# Altium footprint library POWER.PcbLib: 39 footprints (part 1 of 3)
Each footprint in its own frame and in the unit in brackets; x right, y up, seen from the top. Pads: shape width x height; smd on the part's side, far side on the other; paste and mask are expansions set on the pad; w line width, h text height; cw(c..) or ccw(c..) is an arc to the next point about the centre after c.
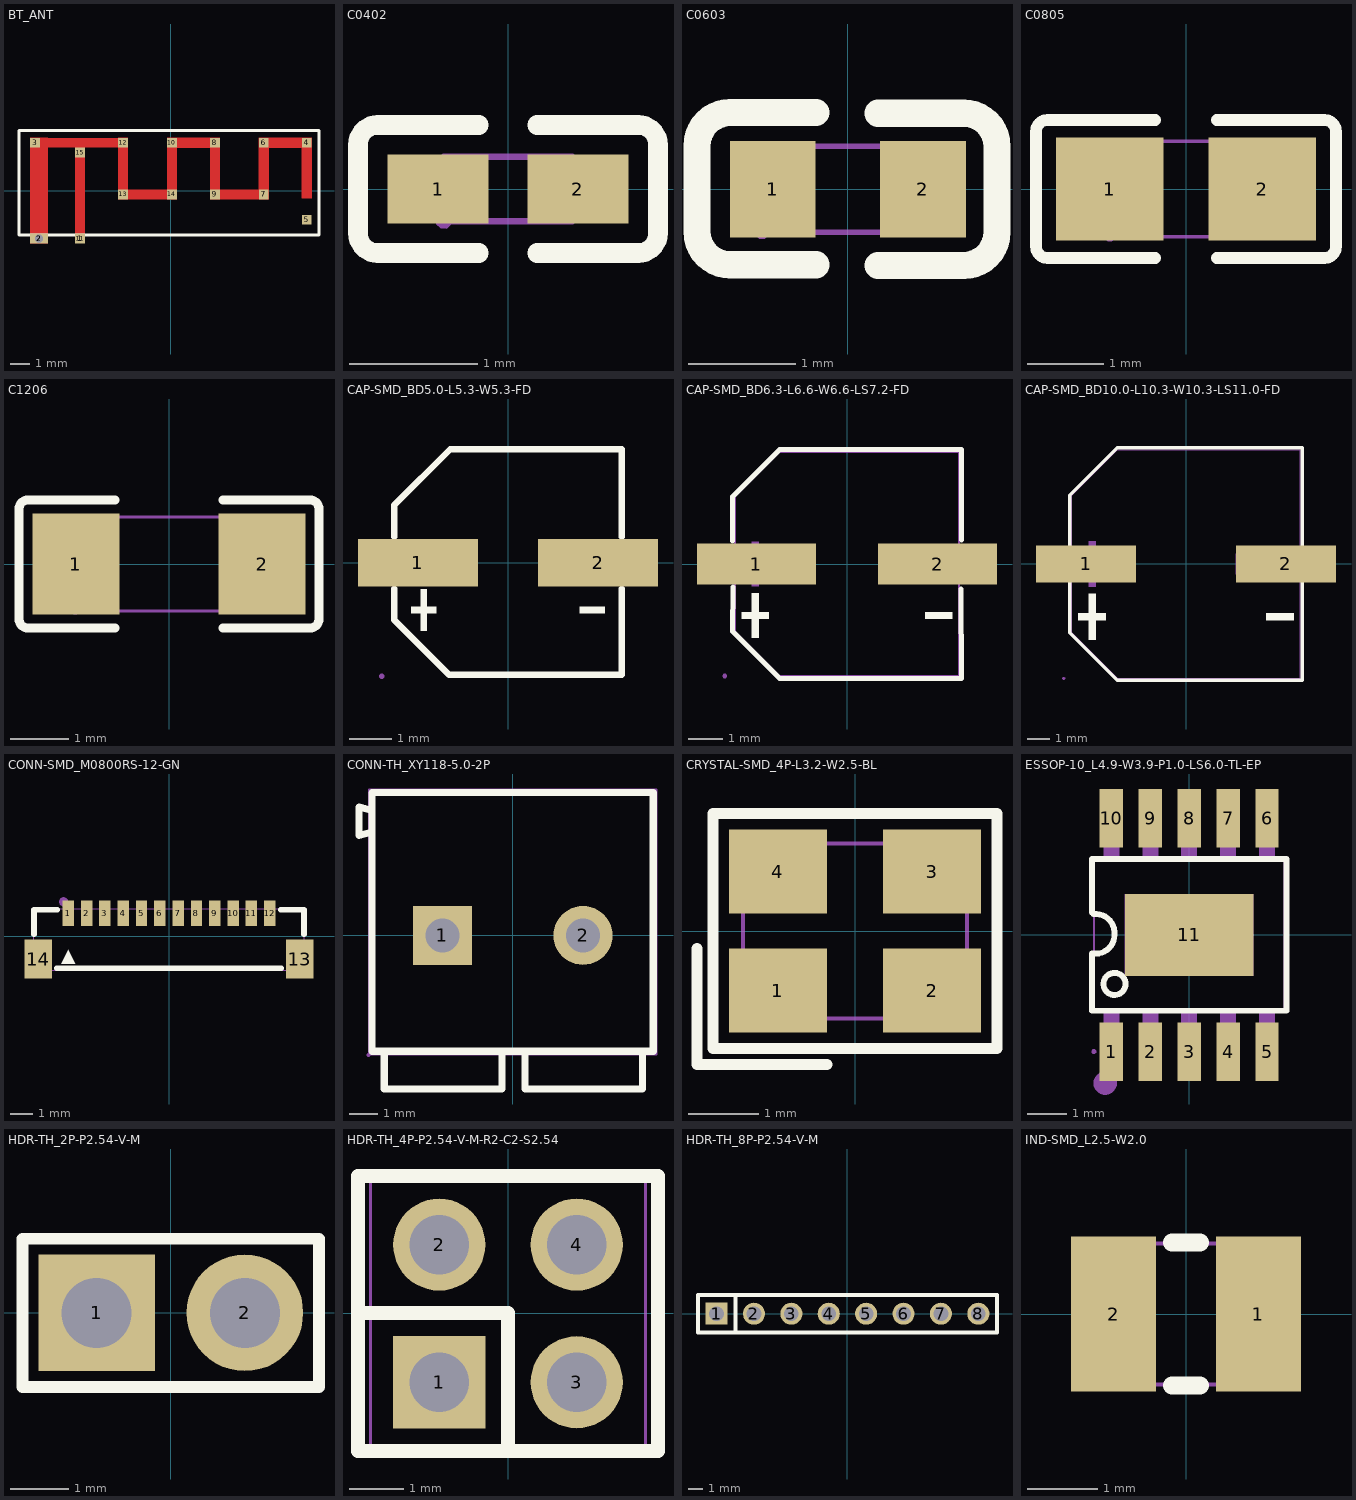
[diagram p0: the footprints below, top view; thin cyan lines are the x and y axes]

## BT_ANT [mm]
pads (17):
  rect 0.5x0.5 smd paste+0 mask+0.102: 1(-4.65,-2.45) 3(-6.95,2.45) 4(6.95,2.45) 5(6.95,-1.49) 6(4.75,2.45) 7(4.75,-0.19) 8(2.25,2.45) 9(2.25,-0.19) 10(0.05,2.45) 11(-4.65,-2.45) 12(-2.45,2.45) 13(-2.45,-0.19) 14(0.05,-0.19) 15(-4.65,1.95)
  rect 0.9x0.5 smd paste+0 mask+0.102: 2(-6.75,-2.45) 2(-6.75,-2.45)
  oval 0.7x0.5 hole 0.4 slot 0.405 at 0 deg paste+0 mask+0.102: 2(-6.75,-2.45)
Top Layer:
  region: 2.5,-0.44 2.5,2.7 2,2.7 2,-0.44
  region: 2.5,2.2 2.5,2.7 -0.201,2.7 -0.201,2.2
  region: 0.3,-0.44 0.3,2.7 -0.201,2.7 -0.201,-0.44
  region: 0.301,-0.441 0.301,0.059 -2.699,0.059 -2.699,-0.441
  region: -6.299,-2.7 -6.299,2.7 -7.198,2.7 -7.198,-2.7
  region: -4.4,-2.358 -4.4,2.45 -4.901,2.45 -4.901,-2.358
  region: -2.201,-0.44 -2.201,2.7 -2.701,2.7 -2.701,-0.44
  region: 5,-0.44 5,2.7 4.5,2.7 4.5,-0.44
  region: 2.299,0.06 2.299,-0.44 5,-0.44 5,0.06
  region: 7.2,2.2 7.2,2.699 4.5,2.699 4.5,2.2
  region: 7.2,-0.39 7.2,2.7 6.7,2.7 6.7,-0.39
  lines w0.5: -6.95,2.45 -2.45,2.45
Top Overlay:
  lines w0.15: -7.775,-2.275 -7.775,3.075 7.575,3.075 7.575,-2.275 -7.775,-2.275
Top Solder:
  lines w0.5: -6.95,2.45 -2.45,2.45 -2.45,-0.19 0.05,-0.19 0.05,2.45 2.25,2.45 2.25,-0.19 4.75,-0.19 4.75,2.45 6.95,2.45 6.95,-1.49 ; -4.65,-2.45 -4.65,2.45
  lines w0.9: -6.75,-2.25 -6.75,2.25

## C0402 [mm]
pads (2):
  rect 0.79x0.54 smd paste-100 mask+0.051: 1(-0.545,0) 2(0.545,0)
Top Overlay:
  lines w0.152: -0.226,-0.499 -1.016,-0.499 cw(c-1.016,-0.346) -1.169,-0.346 -1.169,0.346 cw(c-1.016,0.346) -1.016,0.499 -0.226,0.499 ; 0.226,-0.499 1.016,-0.499 ccw(c1.016,-0.346) 1.169,-0.346 1.169,0.346 ccw(c1.016,0.346) 1.016,0.499 0.226,0.499
Top Paste:
  region: 0.78,0.225 0.78,-0.225 0.73,-0.275 0.25,-0.275 0.18,-0.225 0.18,0.225 0.25,0.275 0.73,0.275
  region: -0.18,0.225 -0.18,-0.225 -0.25,-0.275 -0.73,-0.275 -0.78,-0.225 -0.78,0.225 -0.73,0.275 -0.25,0.275
Mechanical 15:
  region: -0.44,-0.25 -0.441,-0.226 -0.476,-0.192 -0.524,-0.192 -0.559,-0.226 -0.56,-0.25 -0.559,-0.274 -0.524,-0.308 -0.476,-0.308 -0.441,-0.274 -0.44,-0.25
  region: 0.5,-0.25 0.5,0.25 0.25,0.25 0.25,-0.25
  region: -0.5,-0.25 -0.5,0.25 -0.25,0.25 -0.25,-0.25
  lines w0.051: -0.5,-0.25 0.5,-0.25 0.5,0.25 -0.5,0.25 -0.5,-0.25

## C0603 [mm]
pads (2):
  rect 0.8x0.9 smd: 1(-0.7,0) 2(0.7,0)
Top Overlay:
  lines w0.254: -0.296,-0.704 -1.096,-0.704 cw(c-1.096,-0.394) -1.406,-0.394 -1.405,0.406 cw(c-1.096,0.406) -1.096,0.715 -0.296,0.715 ; 0.28,-0.71 1.08,-0.71 ccw(c1.08,-0.4) 1.39,-0.4 1.39,0.4 ccw(c1.08,0.4) 1.08,0.71 0.28,0.71
Mechanical 15:
  region: -0.86,-0.4 -0.86,-0.425 -0.825,-0.46 -0.775,-0.46 -0.74,-0.425 -0.74,-0.4 -0.74,-0.375 -0.775,-0.34 -0.825,-0.34 -0.86,-0.375 -0.86,-0.4
  region: 0.8,-0.4 0.8,0.4 0.5,0.4 0.5,-0.4
  region: -0.8,-0.4 -0.8,0.4 -0.5,0.4 -0.5,-0.4
  lines w0.051: -0.8,-0.4 0.8,-0.4 0.8,0.4 -0.8,0.4 -0.8,-0.4

## C0805 [mm]
pads (2):
  rect 1.41x1.35 smd paste-100 mask+0.051: 1(-1,0) 2(1,0)
Top Overlay:
  lines w0.152: -0.401,-0.904 -1.811,-0.904 cw(c-1.811,-0.751) -1.964,-0.751 -1.964,0.751 cw(c-1.811,0.751) -1.811,0.904 -0.401,0.904 ; 0.401,-0.904 1.811,-0.904 ccw(c1.811,-0.751) 1.964,-0.751 1.964,0.751 ccw(c1.811,0.751) 1.811,0.904 0.401,0.904
Top Paste:
  region: 0.475,-0.62 0.475,-0.2 0.92,-0.2 0.92,0.25 0.48,0.25 0.475,0.66 0.525,0.71 1.675,0.71 1.725,0.66 1.725,-0.62 1.675,-0.67 0.525,-0.67
  region: -1.675,-0.62 -1.675,0.66 -1.625,0.71 -0.475,0.71 -0.425,0.66 -0.42,0.25 -0.87,0.25 -0.87,-0.2 -0.43,-0.2 -0.425,-0.62 -0.475,-0.67 -1.625,-0.67
Mechanical 15:
  region: -1.06,-0.625 -1.06,-0.65 -1.025,-0.685 -0.975,-0.685 -0.94,-0.65 -0.94,-0.625 -0.94,-0.6 -0.975,-0.565 -1.025,-0.565 -1.06,-0.6 -1.06,-0.625
  region: 1,0.625 1,-0.625 0.5,-0.625 0.5,0.625
  region: -1,-0.625 -1,0.625 -0.5,0.625 -0.5,-0.625
  lines w0.051: -1,-0.625 1,-0.625 1,0.625 -1,0.625 -1,-0.625

## C1206 [mm]
pads (2):
  rect 1.485x1.728 smd paste-100 mask+0.051: 1(-1.593,0) 2(1.593,0)
Top Overlay:
  lines w0.152: -0.926,-1.093 -2.411,-1.093 cw(c-2.411,-0.94) -2.564,-0.94 -2.564,0.94 cw(c-2.411,0.94) -2.411,1.093 -0.926,1.093 ; 0.926,-1.093 2.411,-1.093 ccw(c2.411,-0.94) 2.564,-0.94 2.564,0.94 ccw(c2.411,0.94) 2.411,1.093 0.926,1.093
Top Paste:
  region: -0.85,-0.764 -0.85,-0.394 -0.95,-0.294 -1.255,-0.294 -1.355,-0.194 -1.355,0.194 -1.255,0.294 -0.95,0.294 -0.85,0.394 -0.85,0.764 -0.95,0.864 -2.235,0.864 -2.335,0.764 -2.335,-0.764 -2.235,-0.864 -0.95,-0.864
  region: 0.85,-0.764 0.85,-0.394 0.95,-0.294 1.255,-0.294 1.355,-0.194 1.355,0.194 1.255,0.294 0.95,0.294 0.85,0.394 0.85,0.764 0.95,0.864 2.235,0.864 2.335,0.764 2.335,-0.764 2.235,-0.864 0.95,-0.864
Mechanical 15:
  region: 1.6,-0.8 1.6,0.8 1.1,0.8 1.1,-0.8
  region: -1.6,-0.8 -1.6,0.8 -1.1,0.8 -1.1,-0.8
  region: -1.6,-0.74 -1.625,-0.74 -1.66,-0.775 -1.66,-0.825 -1.625,-0.86 -1.6,-0.86 -1.575,-0.86 -1.54,-0.825 -1.54,-0.775 -1.575,-0.74 -1.6,-0.74
  lines w0.051: -1.6,-0.8 1.6,-0.8 1.6,0.8 -1.6,0.8 -1.6,-0.8

## CAP-SMD_BD5.0-L5.3-W5.3-FD [mm]
pads (2):
  rect 2.8x1.1 smd: 1(-2.1,0) 2(2.1,0)
Top Overlay:
  region: -2.04,-0.624 -2.04,-1.584 -1.896,-1.584 -1.896,-0.624
  region: -2.256,-1.032 -2.256,-1.176 -1.68,-1.176 -1.68,-1.032
  region: 2.256,-1.032 2.256,-1.176 1.68,-1.176 1.68,-1.032
  lines w0.152: -2.659,-0.607 -2.659,-1.331 -1.372,-2.619 2.649,-2.619 2.649,-0.607 ; -2.659,0.607 -2.659,1.341 -1.349,2.649 2.659,2.649 2.659,0.607
Mechanical 6:
  region: -2.04,0.48 -2.04,-0.48 -1.896,-0.48 -1.896,0.48
  region: -2.256,0.072 -2.256,-0.072 -1.68,-0.072 -1.68,0.072
  region: 2.256,0.072 2.256,-0.072 1.68,-0.072 1.68,0.072
Mechanical 15:
  region: 2.95,-0.32 0.85,-0.32 0.85,0.33 2.95,0.33
  region: -2.95,0.33 -0.85,0.33 -0.85,-0.32 -2.95,-0.32
  region: -2.95,-2.71 -2.925,-2.71 -2.89,-2.675 -2.89,-2.625 -2.925,-2.59 -2.95,-2.59 -2.975,-2.59 -3.01,-2.625 -3.01,-2.675 -2.975,-2.71 -2.95,-2.71
  lines w0.051: -2.65,-1.35 -2.65,1.35 -1.35,2.65 2.65,2.65 2.65,-2.65 -1.35,-2.65 -2.65,-1.35

## CAP-SMD_BD6.3-L6.6-W6.6-LS7.2-FD [mm]
pads (2):
  rect 3.5x1.2 smd: 1(-2.67,0) 2(2.67,0)
Top Overlay:
  region: 3.102,-1.419 3.102,-1.617 2.31,-1.617 2.31,-1.419
  region: -3.102,-1.419 -3.102,-1.617 -2.31,-1.617 -2.31,-1.419
  region: -2.805,-0.858 -2.805,-2.178 -2.607,-2.178 -2.607,-0.858
  lines w0.152: -3.376,0.686 -3.376,1.98 -1.98,3.376 3.376,3.376 3.369,0.708 ; -3.362,-0.686 -3.376,-1.981 -1.981,-3.376 3.376,-3.376 3.356,-0.739
Mechanical 6:
  region: 3.102,0.099 3.102,-0.099 2.31,-0.099 2.31,0.099
  region: -3.102,0.099 -3.102,-0.099 -2.31,-0.099 -2.31,0.099
  region: -2.805,0.66 -2.805,-0.66 -2.607,-0.66 -2.607,0.66
Mechanical 15:
  region: -3.6,0.35 -0.95,0.35 -0.95,-0.35 -3.6,-0.35
  region: 0.95,0.35 3.6,0.35 3.6,-0.35 0.95,-0.35
  region: -3.6,-3.24 -3.624,-3.241 -3.658,-3.276 -3.658,-3.324 -3.624,-3.359 -3.6,-3.36 -3.576,-3.359 -3.542,-3.324 -3.542,-3.276 -3.576,-3.241 -3.6,-3.24
  lines w0.051: -3.3,-1.98 -3.3,1.98 -1.98,3.3 3.3,3.3 3.3,-3.3 -1.98,-3.3 -3.3,-1.98

## CAP-SMD_BD10.0-L10.3-W10.3-LS11.0-FD [mm]
pads (2):
  rect 4.5x1.65 smd: 1(-4.5,0) 2(4.5,0)
Top Overlay:
  region: 4.841,-2.215 4.841,-2.524 3.605,-2.524 3.605,-2.215
  region: -4.841,-2.215 -4.841,-2.524 -3.605,-2.524 -3.605,-2.215
  region: -4.378,-1.339 -4.378,-3.399 -4.069,-3.399 -4.069,-1.339
  lines w0.152: -5.226,-0.852 -5.226,-3.09 -3.09,-5.226 5.226,-5.226 5.226,-0.852 ; -5.226,0.852 -5.226,3.09 -3.09,5.226 5.226,5.226 5.226,0.852
Mechanical 6:
  region: 4.841,0.154 4.841,-0.155 3.605,-0.155 3.605,0.154
  region: -4.841,0.154 -4.841,-0.155 -3.605,-0.155 -3.605,0.154
  region: -4.378,1.03 -4.378,-1.03 -4.069,-1.03 -4.069,1.03
Mechanical 15:
  region: 2.25,0.45 5.5,0.45 5.5,-0.45 2.25,-0.45
  region: -5.5,0.45 -2.25,0.45 -2.25,-0.45 -5.5,-0.45
  region: -5.5,-5.21 -5.475,-5.21 -5.44,-5.175 -5.44,-5.125 -5.475,-5.09 -5.5,-5.09 -5.525,-5.09 -5.56,-5.125 -5.56,-5.175 -5.525,-5.21 -5.5,-5.21
  lines w0.051: -5.15,-3.09 -5.15,3.09 -3.09,5.15 5.15,5.15 5.15,-5.15 -3.09,-5.15 -5.15,-3.09

## CONN-SMD_M0800RS-12-GN [mm]
pads (14):
  rect 0.5x1.1 smd: 1(-4.4,1) 2(-3.6,1) 3(-2.8,1) 4(-2,1) 5(-1.2,1) 6(-0.4,1) 7(0.4,1) 8(1.2,1) 9(2,1) 10(2.8,1) 11(3.6,1) 12(4.4,1)
  rect 1.2x1.7 smd: 13(5.7,-1) 14(-5.7,-1)
Top Overlay:
  region: -4.7,-1.2 -4.1,-1.2 -4.4,-0.6
  lines w0.254: -5.9,0.081 -5.9,1.15 -4.881,1.15 ; -4.9,-1.4 4.9,-1.4 ; 4.881,1.15 5.9,1.15 5.9,0.081
Mechanical 6:
  circle w0.2: c-4.6,1.5 r0.1
Mechanical 15:
  region: 5.42,-0.6 5.62,-0.6 5.62,-1.4 5.42,-1.4
  region: -5.62,-0.6 -5.42,-0.6 -5.42,-1.4 -5.62,-1.4
  region: -4.475,1.203 -4.325,1.203 -4.325,0.803 -4.475,0.803
  region: -3.675,1.203 -3.525,1.203 -3.525,0.803 -3.675,0.803
  region: -2.875,1.203 -2.725,1.203 -2.725,0.803 -2.875,0.803
  region: -2.075,1.203 -1.925,1.203 -1.925,0.803 -2.075,0.803
  region: -1.275,1.203 -1.125,1.203 -1.125,0.803 -1.275,0.803
  region: -0.475,1.203 -0.325,1.203 -0.325,0.803 -0.475,0.803
  region: 0.325,1.203 0.475,1.203 0.475,0.803 0.325,0.803
  region: 1.125,1.203 1.275,1.203 1.275,0.803 1.125,0.803
  region: 1.925,1.203 2.075,1.203 2.075,0.803 1.925,0.803
  region: 2.725,1.203 2.875,1.203 2.875,0.803 2.725,0.803
  region: 3.525,1.203 3.675,1.203 3.675,0.803 3.525,0.803
  region: 4.325,1.203 4.475,1.203 4.475,0.803 4.325,0.803
  region: -5.9,1.143 -5.924,1.144 -5.957,1.179 -5.957,1.227 -5.924,1.262 -5.9,1.263 -5.876,1.262 -5.842,1.227 -5.842,1.179 -5.876,1.144 -5.9,1.143
  lines w0.051: -5.9,-1.497 5.9,-1.497 5.9,1.203 -5.9,1.203 -5.9,-1.497

## CONN-TH_XY118-5.0-2P [mm]
pads (2):
  rect 2.1x2.1 hole 1.2: 1(-2.5,0)
  round 2.1 hole 1.2: 2(2.5,0)
Top Overlay:
  lines w0.254: -5,3.672 -5.461,3.556 -5.461,4.572 -5,4.444 ; -4.567,-4.12 -4.567,-5.461 -0.381,-5.461 -0.381,-4.12 ; 0.433,-4.12 0.433,-5.461 4.619,-5.461 4.619,-4.12 ; -5,-4.12 -5,5.08 5,5.08 5,-4.12 -5,-4.12
Mechanical 15:
  region: -2.9,0.25 -2.1,0.25 -2.1,-0.25 -2.9,-0.25
  region: 2.1,0.25 2.9,0.25 2.9,-0.25 2.1,-0.25
  region: -5.127,-4.307 -5.102,-4.307 -5.067,-4.272 -5.067,-4.222 -5.102,-4.187 -5.127,-4.187 -5.152,-4.187 -5.187,-4.222 -5.187,-4.272 -5.152,-4.307 -5.127,-4.307
  lines w0.051: -5.127,-4.247 -5.127,5.207 5.127,5.207 5.127,-4.247 -5.127,-4.247

## CRYSTAL-SMD_4P-L3.2-W2.5-BL [mm]
pads (4):
  rect 1.4x1.2 smd paste+0 mask+0.051: 1(-1.1,-0.85) 2(1.1,-0.85) 3(1.1,0.85) 4(-1.1,0.85)
Top Overlay:
  lines w0.152: -2.257,-0.25 -2.257,-1.907 -0.4,-1.907 ; -2.029,-1.678 2.029,-1.678 2.029,1.679 -2.029,1.679 -2.029,-1.678
Mechanical 6:
  circle w0.36: c-1.143,-0.889 r0.18
Mechanical 15:
  region: -1.5,-0.35 -0.6,-0.35 -0.6,-1.15 -1.5,-1.15
  region: 0.6,-0.35 1.5,-0.35 1.5,-1.15 0.6,-1.15
  region: 0.6,1.15 1.5,1.15 1.5,0.35 0.6,0.35
  region: -1.5,1.15 -0.6,1.15 -0.6,0.35 -1.5,0.35
  region: -1.6,-1.19 -1.625,-1.19 -1.66,-1.225 -1.66,-1.275 -1.625,-1.31 -1.6,-1.31 -1.575,-1.31 -1.54,-1.275 -1.54,-1.225 -1.575,-1.19 -1.6,-1.19
  lines w0.051: -1.6,-1.25 1.6,-1.25 1.6,1.25 -1.6,1.25 -1.6,-1.25

## ESSOP-10_L4.9-W3.9-P1.0-LS6.0-TL-EP [mm]
pads (11):
  rect 0.6x1.5 smd paste+0 mask+0.05: 1(-2,-3) 2(-1,-3) 3(0,-3) 4(1,-3) 5(2,-3) 6(2,3) 7(1,3) 8(0,3) 9(-1,3) 10(-2,3)
  rect 3.3x2.1 smd paste+0 mask+0.05: 11(0,0)
Top Overlay:
  circle w0.15: c-1.92,-1.26 r0.284
  lines w0.15: -2.5,-1.95 2.5,-1.95 2.5,1.95 -2.5,1.95 -2.5,0.82 -2.5,0.58 -2.46,0.54 cw(c-2.416,0.044) -1.92,0 cw(c-2.4,0) -2.4,-0.48 -2.5,-0.48 -2.5,-1.95
Mechanical 6:
  circle w0.3: c-2.159,-3.81 r0.15
Mechanical 15:
  region: 1.65,-1.05 -1.65,-1.05 -1.65,1.05 1.65,1.05
  region: -2.2,2.38 -2.2,3 -1.8,3 -1.8,2.38
  region: -2.2,1.94 -2.2,2.39 -1.8,2.39 -1.8,1.94
  region: -1.2,2.38 -1.2,3 -0.8,3 -0.8,2.38
  region: -1.2,1.94 -1.2,2.39 -0.8,2.39 -0.8,1.94
  region: -0.2,2.38 -0.2,3 0.2,3 0.2,2.38
  region: -0.2,1.94 -0.2,2.39 0.2,2.39 0.2,1.94
  region: 0.8,2.38 0.8,3 1.2,3 1.2,2.38
  region: 0.8,1.94 0.8,2.39 1.2,2.39 1.2,1.94
  region: 1.8,2.38 1.8,3 2.2,3 2.2,2.38
  region: 1.8,1.94 1.8,2.39 2.2,2.39 2.2,1.94
  region: 1.8,-3 1.8,-2.38 2.2,-2.38 2.2,-3
  region: 1.8,-2.39 1.8,-1.94 2.2,-1.94 2.2,-2.39
  region: 0.8,-3 0.8,-2.38 1.2,-2.38 1.2,-3
  region: 0.8,-2.39 0.8,-1.94 1.2,-1.94 1.2,-2.39
  region: -0.2,-3 -0.2,-2.38 0.2,-2.38 0.2,-3
  region: -0.2,-2.39 -0.2,-1.94 0.2,-1.94 0.2,-2.39
  region: -1.2,-3 -1.2,-2.38 -0.8,-2.38 -0.8,-3
  region: -1.2,-2.39 -1.2,-1.94 -0.8,-1.94 -0.8,-2.39
  region: -2.2,-3 -2.2,-2.38 -1.8,-2.38 -1.8,-3
  region: -2.2,-2.39 -2.2,-1.94 -1.8,-1.94 -1.8,-2.39
  region: -2.45,-3.06 -2.426,-3.059 -2.392,-3.024 -2.392,-2.976 -2.426,-2.941 -2.45,-2.94 -2.474,-2.941 -2.508,-2.976 -2.508,-3.024 -2.474,-3.059 -2.45,-3.06
  lines w0.051: -2.45,-1.95 2.45,-1.95 2.45,1.95 -2.45,1.95 -2.45,-1.95

## HDR-TH_2P-P2.54-V-M [mm]
pads (2):
  rect 2x2 hole 1.2: 1(-1.27,0)
  round 2 hole 1.2: 2(1.27,0)
Top Overlay:
  lines w0.203: -2.54,-1.27 -2.54,1.27 -0.635,1.27 2.54,1.27 2.54,-1.27 -2.54,-1.27
Mechanical 15:
  region: -1.59,0.32 -0.95,0.32 -0.95,-0.32 -1.59,-0.32
  region: 0.95,0.32 1.59,0.32 1.59,-0.32 0.95,-0.32
  region: -2.6,-1.25 -2.6,-1.275 -2.565,-1.31 -2.515,-1.31 -2.48,-1.275 -2.48,-1.25 -2.48,-1.225 -2.515,-1.19 -2.565,-1.19 -2.6,-1.225 -2.6,-1.25
  lines w0.051: -2.54,-1.25 2.54,-1.25 2.54,1.25 -2.54,1.25 -2.54,-1.25

## HDR-TH_4P-P2.54-V-M-R2-C2-S2.54 [mm]
pads (4):
  rect 1.7x1.7 hole 1.1: 1(-1.27,-1.27)
  round 1.7 hole 1.1: 2(-1.27,1.27) 3(1.27,-1.27) 4(1.27,1.27)
Top Overlay:
  lines w0.254: -2.77,0.007 0,0.007 0,-2.54 ; -2.77,-2.54 -2.77,2.54 2.77,2.54 2.77,-2.54 -2.77,-2.54
Mechanical 15:
  region: -1.59,-0.95 -0.95,-0.95 -0.95,-1.59 -1.59,-1.59
  region: -1.59,1.59 -0.95,1.59 -0.95,0.95 -1.59,0.95
  region: 0.95,1.59 1.59,1.59 1.59,0.95 0.95,0.95
  region: 0.95,-0.95 1.59,-0.95 1.59,-1.59 0.95,-1.59
  region: -2.54,-2.56 -2.516,-2.559 -2.482,-2.524 -2.482,-2.476 -2.516,-2.441 -2.54,-2.44 -2.564,-2.441 -2.598,-2.476 -2.598,-2.524 -2.564,-2.559 -2.54,-2.56
  lines w0.051: -2.54,-2.5 -2.54,2.5 2.54,2.5 2.54,-2.5 -2.54,-2.5

## HDR-TH_8P-P2.54-V-M [mm]
pads (8):
  rect 1.5x1.5 hole 1: 1(-8.89,0)
  round 1.5 hole 1: 2(-6.35,0) 3(-3.81,0) 4(-1.27,0) 5(1.27,0) 6(3.81,0) 7(6.35,0) 8(8.89,0)
Top Overlay:
  lines w0.254: -7.596,-1.27 -7.596,1.27 ; -10.16,-1.27 -10.16,1.27 10.16,1.27 10.16,-1.27 -10.16,-1.27
Mechanical 15:
  region: 8.57,0.32 9.21,0.32 9.21,-0.32 8.57,-0.32
  region: 6.03,0.32 6.67,0.32 6.67,-0.32 6.03,-0.32
  region: 3.49,0.32 4.13,0.32 4.13,-0.32 3.49,-0.32
  region: 0.95,0.32 1.59,0.32 1.59,-0.32 0.95,-0.32
  region: -1.59,0.32 -0.95,0.32 -0.95,-0.32 -1.59,-0.32
  region: -4.13,0.32 -3.49,0.32 -3.49,-0.32 -4.13,-0.32
  region: -6.67,0.32 -6.03,0.32 -6.03,-0.32 -6.67,-0.32
  region: -9.21,0.32 -8.57,0.32 -8.57,-0.32 -9.21,-0.32
  region: -10.22,-1.25 -10.22,-1.275 -10.185,-1.31 -10.135,-1.31 -10.1,-1.275 -10.1,-1.25 -10.1,-1.225 -10.135,-1.19 -10.185,-1.19 -10.22,-1.225 -10.22,-1.25
  lines w0.051: -10.16,-1.25 10.16,-1.25 10.16,1.25 -10.16,1.25 -10.16,-1.25

## IND-SMD_L2.5-W2.0 [mm]
pads (2):
  rect 1.2x2.2 smd: 1(1.028,0) 2(-1.028,0)
Top Overlay:
  lines w0.254: -0.197,-1.016 0.197,-1.016 ; -0.197,1.016 0.197,1.016
Mechanical 15:
  region: -1.22,-0.91 -1.245,-0.91 -1.28,-0.945 -1.28,-0.995 -1.245,-1.03 -1.22,-1.03 -1.195,-1.03 -1.16,-0.995 -1.16,-0.945 -1.195,-0.91 -1.22,-0.91
  region: -1.25,1 -0.45,1 -0.45,-1 -1.25,-1
  region: 0.45,1 1.25,1 1.25,-1 0.45,-1
  lines w0.051: -1.25,-1 -1.25,1 1.25,1 1.25,-1 -1.25,-1